# Altium schematic symbol library Power_DiscreteSSR_1.SCHLIB: 79 symbols (part 3 of 3)
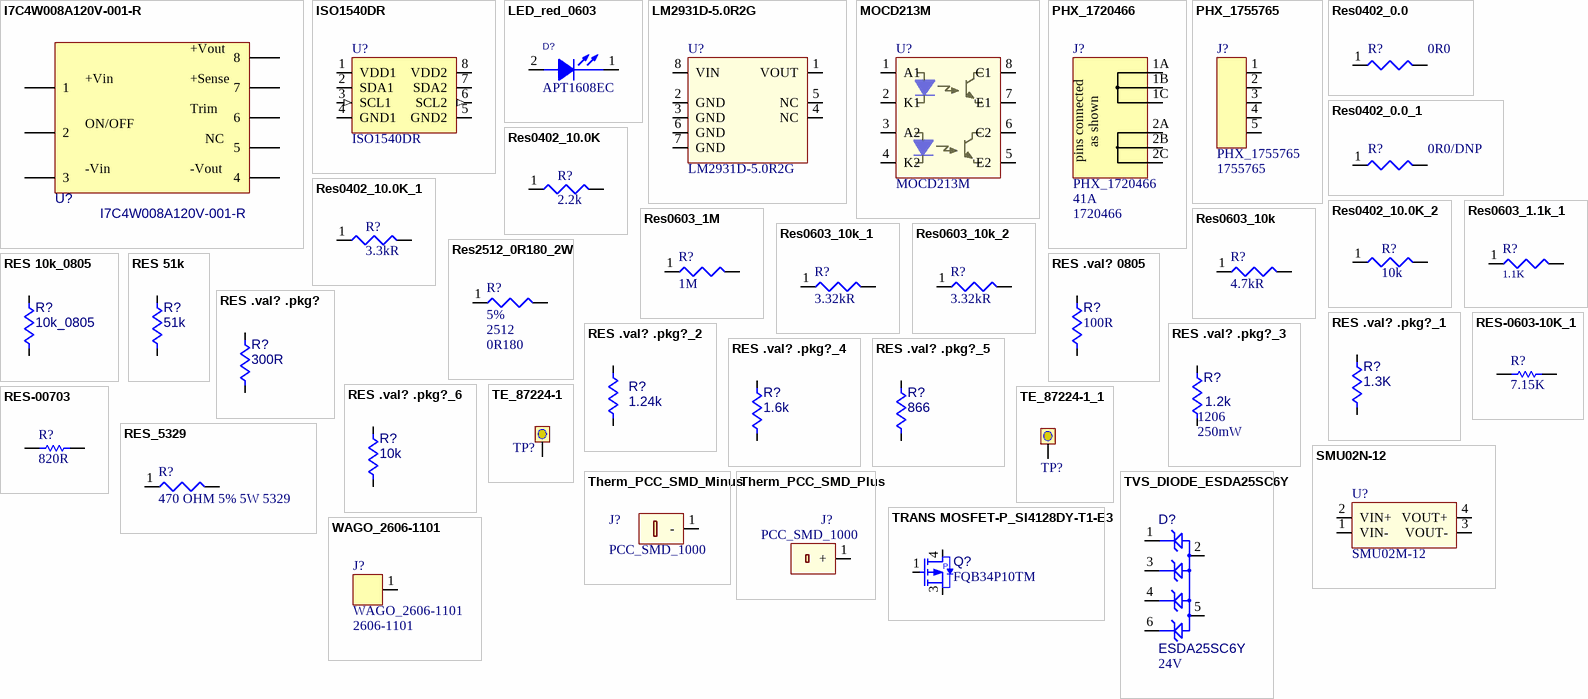
[diagram p3: symbols I7C4W008A120V-001-R to WAGO_2606-1101]

## RES .val? .pkg?_6
designator R?, comment 10k
VISHAY - CRCW060310K0FKEB - D11/CRCW0603 100 10K 1% ET5 E3; _Verified Footprint: .mfr-pn? footprint?; _Verified Symbol: .mfr-pn?; Resistance: 10kR; Power Rating: 100mW; Voltage Rating: 75V; Temperature Coefficient: 100ppm/°C; _Verified BOM: .mfr-pn?; Supplier 1: Newark; Supplier Part Number 1: 85Y8054; Supplier 2: Digi-Key; Supplier Part Number 2: 541-2978-1-ND; Manufacturer: Vishay; Manufacturer Part Number: CRCW060310K0FKEB; RoHS: Yes; Category: Chip SMD Resistors; Stock 2: 77406; Pricing 2: 1=0.10000, 10=0.03400, 100=0.01390, 1000=0.00623, 2500=0.00540, 5000=0.00447 (USD); Case/Package: 0603; Number of Pins: 2; Weight: 7.1E-05oz; Case Code (Imperial): 0603; Case Code (Metric): 1608; Contact Plating: Tin; Min Operating Temperature: -55°C; Max Operating Temperature: 155°C; Packaging: Tape and Reel; Package Quantity: 10000; Military Standard: Not; Tolerance: 1%; Composition: Thick Film; Voltage Rating (DC): 75V; Number of Terminations: 2; Max Power Dissipation: 100mW; Features: Automotive AEC-Q200; Length: 1.55mm; Height: 0.02inch; Depth: 0.85mm; Width: 0.033inch; Radiation Hardening: No; REACH SVHC: Unknown; Lead Free: Lead Free; ComponentLink1URL: https://datasheet.ciiva.com/5550/dcrcwe3-109170-5550939.pdf?src-supplier=Mouser; ComponentLink1Description: https://datasheet.ciiva.com/5550/dcrcwe3-109170-5550939.pdf?src-supplier=Mouser; ComponentLink2URL: https://datasheet.ciiva.com/8336/dcrcwe3-8336742.pdf?src-supplier=Avnet; ComponentLink2Description: https://datasheet.ciiva.com/8336/dcrcwe3-8336742.pdf?src-supplier=Avnet; ComponentLink3URL: https://datasheet.ciiva.com/16941/dcrcwe3-16941327.pdf?src-supplier=Avnet+Europe; ComponentLink3Description: https://datasheet.ciiva.com/16941/dcrcwe3-16941327.pdf?src-supplier=Avnet+Europe
simulation model RESISTOR (Resistor)
footprint 0603R(1608)
pins: 1, 2

## RES-0603-10K_1
designator R?, comment Resistance (Ohms): 7.15K  (hidden comment: 10k)
RES SMD 10K OHM 5% 1/10W 0603; Manufacturer: Panasonic Electronic Components; Manufacturer Part Number: RMCF0603FT7K15; Manufacturer Two: Any equivalent to description; Manufacturer Two Part Number: Per manufacturer; Tolerance: ±1%; Proto Cost @ 100: 0.0068; Temperature Coefficient: ±100ppm/°C; Power (Watts): 0.1W, 1/10W; Symbol Revision Notes: *; Pin Count: 2; RoHS: RoHS Compliant; Supplier 1: Digi-Key; Packaging: Cut Tape (CT); Series: RMC; Supplier Part Number 1: RMCF0603FT7K15TR-ND; Package / Case: 0603 (1608 Metric); Size / Dimension: 0.063" L x 0.031" W (1.60mm x 0.80mm); Validated: -; Height: 0.022" (0.55mm); Composition: Thick Film; ComponentLink1URL: http://industrial.panasonic.com/www-cgi/jvcr13pz.cgi?E+PZ+3+AOA0002+ERJ3EKF1200V+7+WW
simulation model RESISTOR (Resistor)
signal-integrity model Res
footprint 0603R(1608)
pins: 1, 2

## RES-00703
designator R?, comment Resistance (Ohms): 820R  (hidden comment: 120)
RES 120 OHM 1/10W 1% 0603 SMD; Part Number: CRCW0603820RJNEA; Manufacturer: Vishay Dale; Manufacturer Two: Any equivalent to description; Manufacturer Two Part Number: Per manufacturer; Tolerance: ±5%; Temperature Coefficient: ±200ppm/°C; Power (Watts): 0.1W, 1/10W; Manufacturer Part Number: CRCW0603820RJNEA; Pin Count: 2; RoHS: RoHS Compliant; Supplier 1: Digi-Key; Packaging: Cut Tape (CT); Series: CRCW; Supplier Part Number 1: 541-820GCT-ND; Package / Case: 0603 (1608 Metric); Size / Dimension: 0.063" L x 0.031" W (1.60mm x 0.80mm); Height: 0.022" (0.55mm); Composition: Thick Film; ComponentLink1URL: https://www.vishay.com/docs/20035/dcrcwe3.pdf; ComponentLink1Description: https://www.vishay.com/docs/20035/dcrcwe3.pdf; ComponentLink1URL: *
simulation model RESISTOR (Resistor)
signal-integrity model Res
footprint 0603R(1608)
pins: 1, 2

## RES_5329
designator R?, comment 470 OHM 5% 5W 5329
RES SMD 470 OHM 5% 5W 5329; Manufacturer: TE Connectivity CGS; Manufacturer Part Number: SMW5470RJT; Number of Resistors: 1; Voltage Rating (DC): 500V; Temperature Coefficient: 200ppm/°C; Resistance: 470R; Mount: Surface Mount; Case/Package: SMD/SMT; Packaging: Tape and Reel; ComponentLink1URL: https://datasheet.ciiva.com/6053/eng-ds-1773242-e-6053646.pdf?src-supplier=Farnell; ComponentLink1Description: https://datasheet.ciiva.com/6053/eng-ds-1773242-e-6053646.pdf?src-supplier=Farnell; Supplier Part Number 1: A131836CT-ND; Supplier 1: Digi-Key; Stock 1: 3026; Pricing 1: 1=1.03000, 10=0.91000, 25=0.83640, 50=0.76320, 100=0.66040, 250=0.55764 (USD); RoHS: Yes; Case Code (Imperial): 5329; Number of Terminations: 2; Composition: Power resistor; Termination: Solder; Power Rating: 5W; Tolerance: 5%; Voltage Rating: 500V; Length: 13.5mm; Height: 6.8mm; Depth: 7.3mm; Width: 7.3mm; REACH SVHC: No SVHC; ELV: Compliant
footprint R5329
pins: 1, 2

## SMU02N-12
designator U?, comment SMU02M-12
2 W, 21.6 -26.4 VDC Vin, Single Output, 12 VDC@0.167 A Dc-dc Converter; Manufacturer: Mean Well; Supplier 1: Mouser; Supplier Part Number 1: 709-SMU02M-12; Manufacturer Part Number: SMU02M-12; RoHS: No; Category: Board Mount Modules; Stock 1: 113; Pricing 1: 1=4.15000, 10=3.99000, 25=3.81000, 50=3.80000, 100=3.39000, 250=3.34000, 500=3.29000, 1000=3.24000 (USD); ComponentLink1Description: https://www.meanwell.com/Upload/PDF/SMU02/SMU02-SPEC.PDF; ComponentLink1URL: https://www.meanwell.com/Upload/PDF/SMU02/SMU02-SPEC.PDF
footprint SMU02N-12
pins: 1 VIN-, 2 VIN+, 3 VOUT-, 4 VOUT+

## TE_87224-1
designator TP?  (value not drawn)  (no BOM)
CONN HEADER VERT .100 1POS 15AU; Manufacturer: TE Connectivity AMP Connectors; Connector Type: Header, Unshrouded; Number of Positions: 1; Number of Positions Loaded: All; Pitch: 0.100" (2.54mm); RoHS: RoHS Compliant; Category: Connectors, Interconnects; Stock 1: 141; Pricing 1: 1=0.59, 25=0.5632, 50=0.474, 100=0.414, 500=0.395, 1000=0.326, 2500=0.296, 5000=0.286, 10000=0.259 (USD); Packaging: Bulk; Contact Type: Male Pin; Number of Rows: 1; Row Spacing: -; Contact Mating Length: 0.318" (8.08mm); Mounting Type: Through Hole; Termination: Solder; Fastening Type: -; Features: -; Contact Finish: Gold; Contact Finish Thickness: 15µin (0.38µm); Color: Black; ComponentLink1URL: http://www.te.com/commerce/DocumentDelivery/DDEController?Action=srchrtrv&DocNm=87224&DocType=Customer+Drawing&DocLang=English; ComponentLink1Description: http://www.te.com/commerce/DocumentDelivery/DDEController?Action=srchrtrv&DocNm=87224&DocType=Customer+Drawing&DocLang=English; Supplier 1: Digi-Key; Supplier Part Number 1: A26541-ND; Manufacturer Part Number: 87224-1
footprint TE_87224-1 (CONN HEADER VERT .100 1POS 15AU)
pins: 1

## TE_87224-1_1
designator TP?, comment TE_87224-1  (value not drawn)
CONN HEADER VERT .100 1POS 15AU; Manufacturer: TE Connectivity AMP Connectors; Connector Type: Header, Unshrouded; Number of Positions: 1; Number of Positions Loaded: All; Pitch: 0.100" (2.54mm); RoHS: RoHS Compliant; Category: Connectors, Interconnects; Stock 1: 141; Pricing 1: 1=0.59, 25=0.5632, 50=0.474, 100=0.414, 500=0.395, 1000=0.326, 2500=0.296, 5000=0.286, 10000=0.259 (USD); Packaging: Bulk; Contact Type: Male Pin; Number of Rows: 1; Row Spacing: -; Contact Mating Length: 0.318" (8.08mm); Mounting Type: Through Hole; Termination: Solder; Fastening Type: -; Features: -; Contact Finish: Gold; Contact Finish Thickness: 15µin (0.38µm); Color: Black; ComponentLink1URL: http://www.te.com/commerce/DocumentDelivery/DDEController?Action=srchrtrv&DocNm=87224&DocType=Customer+Drawing&DocLang=English; ComponentLink1Description: http://www.te.com/commerce/DocumentDelivery/DDEController?Action=srchrtrv&DocNm=87224&DocType=Customer+Drawing&DocLang=English; Supplier 1: Digi-Key; Supplier Part Number 1: A26541-ND; Manufacturer Part Number: 87224-1; Manufacturer 1: TE Connectivity AMP Connectors; Manufacturer Part Number 1: 87224-1
footprint TE_87224-1 (CONN HEADER VERT .100 1POS 15AU)
pins: 1

## Therm_PCC_SMD_Minus
designator J?, comment PCC_SMD_1000
THERMOCOUPLE CONNECTOR, RTD, RECEPTACLE; Manufacturer: Omega; Manufacturer Part Number: PCC-SMD-1000; Manufacturer Part Number 2: PCC-SMD-500; Manufacturer Part Number 3: PCC-SMD-1000; System: Connector; Manufacturer 2: Omega
footprint PCC_SMD_- (Thermocouple connector)
pins: 1 -

## Therm_PCC_SMD_Plus
designator J?, comment PCC_SMD_1000
THERMOCOUPLE CONNECTOR, RTD, RECEPTACLE; Manufacturer: Omega; Manufacturer Part Number: PCC-SMD-1000; Manufacturer Part Number 2: PCC-SMD-500; Manufacturer Part Number 3: PCC-SMD-1000; System: Connector; Manufacturer 2: Omega
footprint PCC_SMD_+ (Thermocouple connector)
pins: 1 +

## TRANS MOSFET-P_SI4128DY-T1-E3
designator Q?, comment Manufacturer Part Number: FQB34P10TM  (hidden comment: ?)
Trans MOSFET P-CH 100V 33.5A 3-Pin(2+Tab) D2PAK T/R / MOSFET P-CH 100V 33.5A D2PAK; Manufacturer: ON Semiconductor / Fairchild; Rds On Max: 60mR; Input Capacitance: 2.91nF; Max Power Dissipation: 3.75W; Rise Time: 250ns; Number of Elements: 1; Fall Time: 210ns; Turn-Off Delay Time: 160ns; Turn-On Delay Time: 25ns; Element Configuration: Single; Drain to Source Breakdown Voltage: -100V; Gate to Source Voltage (Vgs): 25V; Polarity: P-CHANNEL; Nominal Vgs: 4V; Current Rating: -34A; Supplier 1: Digi-Key; Supplier Part Number 1: FQB34P10TMCT-ND; RoHS: Yes; Category: Integrated Circuits (ICs); Stock 1: 2608; Pricing 1: 1=2.80000, 10=2.51600, 100=2.02220 (USD); Mount: Surface Mount; Case/Package: TO-263; Number of Pins: 3; Weight: 1.31247g; Min Operating Temperature: -55°C; Max Operating Temperature: 175°C; Drain to Source Voltage (Vdss): 100V; Continuous Drain Current (ID): 33.5A; Packaging: Tape and Reel; Package Quantity: 1; Drain to Source Resistance: 60mR; Power Dissipation: 3.75W; Series: QFET®; Threshold Voltage: 4V; Voltage Rating (DC): -100V; On-State Resistance: 60mR; Drain-source On Resistance-Max: 60mR; Length: 10.67mm; Width: 9.65mm; Height: 4.83mm; Radiation Hardening: No; RoHS Compliant: Yes; REACH SVHC: No SVHC; Lead Free: Lead Free; ComponentLink1URL: https://datasheet.ciiva.com/4440/fqb34p10-110600-4440849.pdf?src-supplier=Mouser; ComponentLink1Description: https://datasheet.ciiva.com/4440/fqb34p10-110600-4440849.pdf?src-supplier=Mouser; ComponentLink2URL: https://datasheet.ciiva.com/16743/fqb34p10tm-16743578.pdf?src-supplier=Future+Electronics; ComponentLink2Description: https://datasheet.ciiva.com/16743/fqb34p10tm-16743578.pdf?src-supplier=Future+Electronics; ComponentLink3URL: https://datasheet.ciiva.com/22671/1788504-22671976.pdf?src-supplier=Element14; ComponentLink3Description: https://datasheet.ciiva.com/22671/1788504-22671976.pdf?src-supplier=Element14; ComponentLink4URL: https://datasheet.ciiva.com/1256/1725742-1256197.pdf?src-supplier=Newark; ComponentLink4Description: https://datasheet.ciiva.com/1256/1725742-1256197.pdf?src-supplier=Newark; ComponentLink5URL: https://datasheet.ciiva.com/23855/fqb34p10-23855443.pdf?src-supplier=Newark; ComponentLink5Description: https://datasheet.ciiva.com/23855/fqb34p10-23855443.pdf?src-supplier=Newark; ComponentLink6URL: https://datasheet.ciiva.com/11175/fqb34p10-11175917.pdf?src-supplier=Avnet; ComponentLink6Description: https://datasheet.ciiva.com/11175/fqb34p10-11175917.pdf?src-supplier=Avnet; ComponentLink7URL: https://datasheet.ciiva.com/6376/fqb34p10-6376523.pdf?src-supplier=Digi-Key; ComponentLink7Description: https://datasheet.ciiva.com/6376/fqb34p10-6376523.pdf?src-supplier=Digi-Key; ComponentLink8URL: https://datasheet.ciiva.com/6376/fqb34p10-6376525.pdf?src-supplier=Digi-Key; ComponentLink8Description: https://datasheet.ciiva.com/6376/fqb34p10-6376525.pdf?src-supplier=Digi-Key; ComponentLink9URL: https://datasheet.ciiva.com/8115/fqb34p10-8115964.pdf?src-supplier=Avnet; ComponentLink9Description: https://datasheet.ciiva.com/8115/fqb34p10-8115964.pdf?src-supplier=Avnet; ComponentLink10URL: https://datasheet.ciiva.com/28612/1788504-28612364.pdf?src-supplier=Element14; ComponentLink10Description: https://datasheet.ciiva.com/28612/1788504-28612364.pdf?src-supplier=Element14
simulation model NMOS (MOSFET-N)
footprint TO263-AB
pins: 1 G, 3 S, 4 D
text: P

## TVS_DIODE_ESDA25SC6Y
designator D?, comment ESDA25SC6Y  Reverse Standoff Voltage: 24V
TVS DIODE 24V 51V SOT23-6; Manufacturer 1: STMicroelectronics; Direction: Unidirectional; Capacitance: 60pF; Max Surge Current: 7A; Breakdown Voltage: 25V; Clamping Voltage: 30V; Peak Pulse Power: 300W; Number of Unidirectional Channels: 4; Power Line Protection: No; Leakage Current: 1uA; Peak Pulse Current: 10A; ComponentLink1URL: http://www.infineon.com/dgdl/esd8v0lseries.pdf?folderId=db3a30431441fb5d011488a9e66f0ded&fileId=db3a30431441fb5d011488ab01860dee; ComponentLink1Description: http://www.infineon.com/dgdl/esd8v0lseries.pdf?folderId=db3a30431441fb5d011488a9e66f0ded&fileId=db3a30431441fb5d011488ab01860dee; ComponentLink2URL: https://datasheet.ciiva.com/4510/cd00000839-106239-4510897.pdf?src-supplier=Mouser; ComponentLink2Description: https://datasheet.ciiva.com/4510/cd00000839-106239-4510897.pdf?src-supplier=Mouser; ComponentLink3URL: https://datasheet.ciiva.com/16205/cd00000839-16205182.pdf?src-supplier=Future+Electronics; ComponentLink3Description: https://datasheet.ciiva.com/16205/cd00000839-16205182.pdf?src-supplier=Future+Electronics; Mount: Surface Mount; Case/Package: SOT-23-6; Number of Pins: 6; Min Operating Temperature: -40°C; Max Operating Temperature: 150°C; Working Voltage: 24V; Composition: Zener; Operating Supply Voltage: 24V; Packaging: Tape and Reel; Package Quantity: 1; Polarity: Unidirectional; Termination: SMD/SMT; Length: 3mm; Height: 3mm; Depth: 1.75mm; Radiation Hardening: No; Lead Free: Lead Free; Supplier 1: Digi-Key; Supplier Part Number 1: 497-13421-1-ND; Manufacturer Part Number 1: ESDA25SC6Y; RoHS: Yes; Stock 1: 97901; Category: TVS Diodes; Pricing 1: 1=0.48000, 10=0.35500, 100=0.24750, 500=0.15676, 1000=0.12210 (USD); Min Breakdown Voltage: 25V; Manufacturer: STMicroelectronics; Manufacturer Part Number: ESDA25SC6Y
footprint SOT_23_6
footprint SOT_23_6
pins: 1 IO1, 2 IO2, 3 IO3, 4 GND1, 5 GND2, 6 IO4

## WAGO_2606-1101
designator J?  Manufacturer Part Number: 2606-1101
1 Pos 6 mm²; Pin spacing 7.5 mm; 1-pole; Push-in PCB terminal block; lever; Manufacturer: WAGO; Supplier 1: Future Electronics; RoHS: No; Stock 1: 50; Pricing 1: 1=1.58000, 30=1.41000, 100=1.36000, 300=1.31000, 1000=1.26000 (USD); RoHS Compliant: No; Supplier Part Number 1: 9112143
footprint 2606-1101 (PCB terminal block, lever 6 mm² Pin spacing 7.5 mm 1-pole, gray)
pins: 1